# EAGLE library part 662008231822 (library Wuerth_Elektronik_eiCan_08_Micro_Power_Connectors)
WR-MPC3 3.00mm Male Dual Row SMT Vertical Header with SMT Fitting Nail, 8 Pins
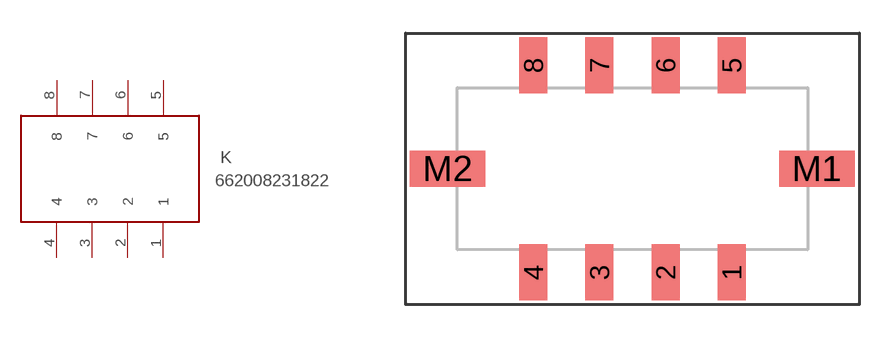
[diagram p21: symbol with the pads of 662008231822; footprint 662008231822]

Designator prefix K

## 662008231822  [662008231822]
1  1
2  2
3  3
4  4
5  5
6  6
7  7
8  8

## Footprint 662008231822 (pad centres in mm)
WR-MPC3 3.00mm Male Dual Row SMT Vertical Header with SMT Fitting Nail, 8 Pins
smd 1.27 x 2.54: 1 0,-4.7; 2 -3,-4.7; 3 -6,-4.7; 4 -9,-4.7; 5 0,4.7; 6 -3,4.7; 7 -6,4.7; 8 -9,4.7
smd 3.43 x 1.65: M1 3.865,0; M2 -12.895,0